# Altium schematic symbol library 691 214 300 0xx.SchLib: 2 symbols
Pins are listed as number, name and electrical type; pins without a type are passive.

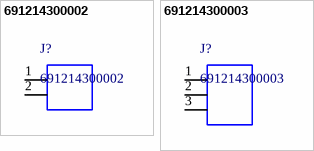
[diagram p0: symbols 691214300002 to 691214300003]

## 691214300002
designator J?
WR-TBL Vertical Cable Entry With Rising Cage Clamp,Serie 2143 - 3.81 mm; Manufacturer: Wurth Elektronik; ComponentLink1 Description: Manufacturer; ComponentLink2 Description: Datasheet; ComponentLink1URL: http://www.we-online.de; Created by: Baojun Chen; Created Date: 8.Sep.2015; partNo: 691214300002
footprint 691214300002 (Serie 2143 - 3.81 mm _ 2 pins)
pins: 1, 2

## 691214300003
designator J?
WR-TBL Vertical Cable Entry With Rising Cage Clamp,Serie 2143 - 3.81 mm; Manufacturer: Wurth Elektronik; ComponentLink1 Description: Manufacturer; ComponentLink2 Description: Datasheet; ComponentLink1URL: http://www.we-online.de; Created by: Baojun Chen; Created Date: 8.Sep.2015; partNo: 691214300003
footprint 691214300003 (Serie 2143 - 3.81 mm _ 3 pins)
pins: 1, 2, 3